# Altium footprint library digi_xbee.PcbLib: 1 footprints
Each footprint in its own frame and in the unit in brackets; x right, y up, seen from the top. Pads: shape width x height; smd on the part's side, far side on the other; paste and mask are expansions set on the pad; w line width, h text height; cw(c..) or ccw(c..) is an arc to the next point about the centre after c.
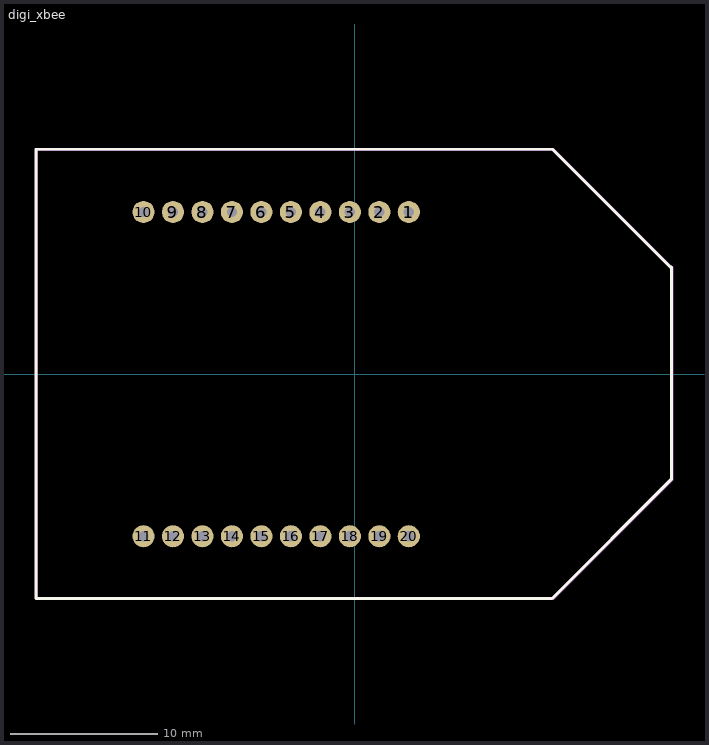
[diagram p0: the footprint, top view; thin cyan lines are the x and y axes]

## digi_xbee [mm]
pads (20):
  round 1.5 hole 0.7: 1(3.658,11) 2(1.658,11) 3(-0.342,11) 4(-2.342,11) 5(-4.342,11) 6(-6.342,11) 7(-8.342,11) 8(-10.342,11) 9(-12.342,11) 10(-14.342,11) 11(-14.342,-11) 12(-12.342,-11) 13(-10.342,-11) 14(-8.342,-11) 15(-6.342,-11) 16(-4.342,-11) 17(-2.342,-11) 18(-0.342,-11) 19(1.658,-11) 20(3.658,-11)
Top Overlay:
  lines w0.2: 13.47,-15.136 21.461,-7.145 21.471,-7.135 ; 21.471,-7.135 21.471,7.268 21.395,7.268 13.404,15.259 -21.648,15.259 -21.648,-15.221 13.386,-15.221 21.471,-7.135
Top Assembly:
  lines w0.2: 13.528,-15.155 21.519,-7.164 21.528,-7.155 ; 21.528,-7.155 21.528,7.249 21.453,7.249 13.462,15.24 -21.59,15.24 -21.59,-15.24 13.443,-15.24 21.528,-7.155